# Altium footprint library SOT909-1.PcbLib: 1 footprints
Each footprint in its own frame and in the unit in brackets; x right, y up, seen from the top. Pads: shape width x height; smd on the part's side, far side on the other; paste and mask are expansions set on the pad; w line width, h text height; cw(c..) or ccw(c..) is an arc to the next point about the centre after c.
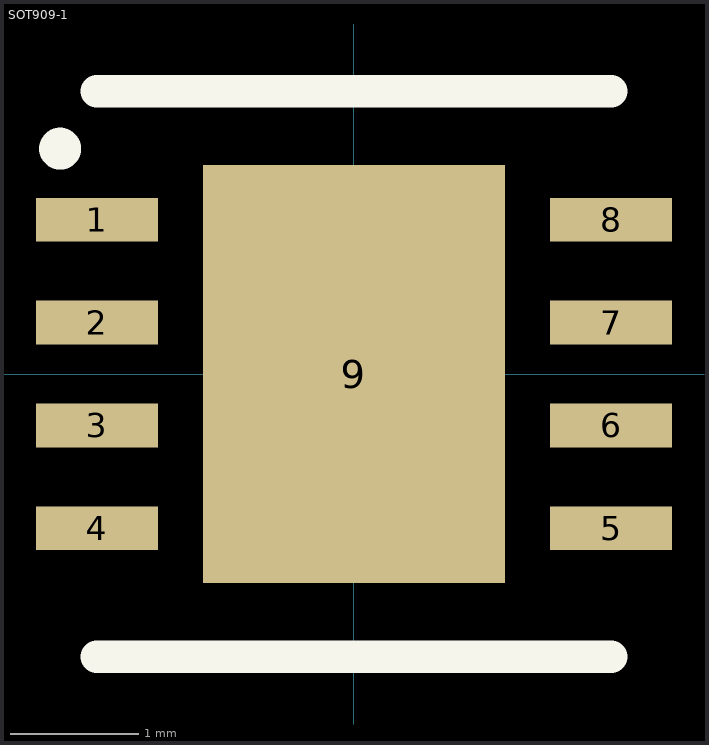
[diagram p0: the footprint, top view; thin cyan lines are the x and y axes]

## SOT909-1 [mm] "SOT909-1"
pads (9):
  rect 0.95x0.34 smd paste+0: 1(-2,1.2)
  rect 0.95x0.34 smd: 2(-2,0.4) 3(-2,-0.4) 4(-2,-1.2) 5(2,-1.2) 6(2,-0.4) 7(2,0.4) 8(2,1.2)
  rect 2.35x3.25 smd paste-3.25: 9(0,0)
Top Overlay:
  circle w0.254: c-2.286,1.753 r0.036
  lines w0.254: -2,-2.2 2,-2.2 ; -2,2.2 2,2.2
Top Paste:
  rectangle: -0.55,0.175 0.55,0.875
  rectangle: -0.55,-0.875 0.55,-0.175
3D body "PCF8523TK_1,118.stp": height 1, standoff 0, extent -2.05,-2 2.05,2